# EAGLE library part MPU9250 (library mille-feuille)
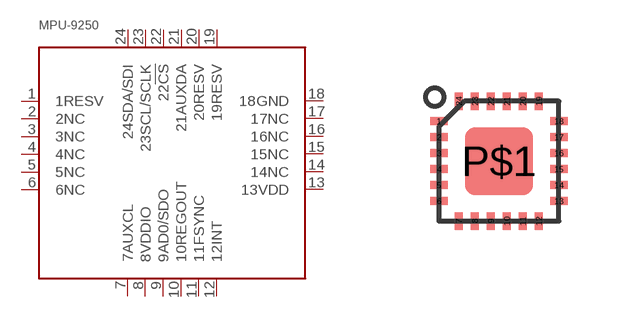
[diagram p32: symbol with the pads of MPU9250; footprint MPU9250]

Designator prefix U

## MPU9250  [MPU9250]
1  1RESV
2  2NC
3  3NC
4  4NC
5  5NC
6  6NC
7  7AUXCL
8  8VDDIO
9  9AD0/SDO
10  10REGOUT
11  11FSYNC
12  12INT
13  13VDD
14  14NC
15  15NC
16  16NC
17  17NC
18  18GND
19  19RESV
20  20RESV
21  21AUXDA
22  22!CS
23  23SCL/SCLK
24  24SDA/SDI

## Footprint MPU9250 (pad centres in mm)
smd 0.44 x 0.2: 1 -1.5,1; 2 -1.5,0.6; 3 -1.5,0.2; 4 -1.5,-0.2; 5 -1.5,-0.6; 6 -1.5,-1; 13 1.5,-1; 14 1.5,-0.6; 15 1.5,-0.2; 16 1.5,0.2; 17 1.5,0.6; 18 1.5,1
smd 0.2 x 0.44: 7 -1,-1.5; 8 -0.6,-1.5; 9 -0.2,-1.5; 10 0.2,-1.5; 11 0.6,-1.5; 12 1,-1.5; 19 1,1.5; 20 0.6,1.5; 21 0.2,1.5; 22 -0.2,1.5; 23 -0.6,1.5; 24 -1,1.5
smd 1.7 x 1.7: P$1 0,0